# EAGLE library part HOPERF_RFM95W (library lorawan-library)
HopeRF LoRaWAN modules Link: http://www.hoperf.com/rf_transceiver/lora/
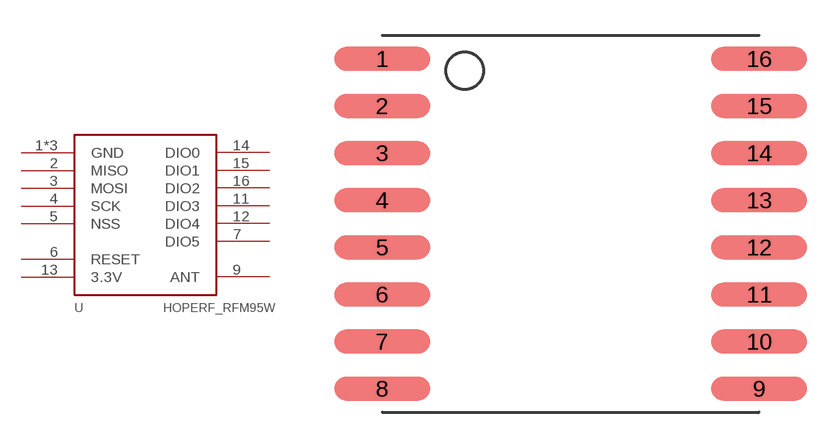
[diagram p1: symbol with the pads of HOPERF_RFM95W; footprint HOPERF_RFM95W]

Designator prefix -

## HOPERF_RFM95W (HEIGHT: 1.8; LENGTH: 16; WIDTH: 16)  [HOPERF_RFM95W]
1  GND  pwr
2  MISO  in
3  MOSI  out
4  SCK  in
5  NSS  in
6  RESET
7  DIO5
8  GND  pwr
9  ANT
10  GND  pwr
11  DIO3
12  DIO4
13  3.3V  pwr
14  DIO0
15  DIO1
16  DIO2

## Footprint HOPERF_RFM95W (pad centres in mm)
smd 4.064 x 1.016: 1 -8.12,7.13; 2 -8.12,5.13; 3 -8.12,3.13; 4 -8.12,1.13; 5 -8.12,-0.87; 6 -8.12,-2.87; 7 -8.12,-4.87; 8 -8.12,-6.87; 9 7.88,-6.87; 10 7.88,-4.87; 11 7.88,-2.87; 12 7.88,-0.87; 13 7.88,1.13; 14 7.88,3.13; 15 7.88,5.13; 16 7.88,7.13